# Altium footprint library TO.PcbLib: 2 footprints
Each footprint in its own frame and in the unit in brackets; x right, y up, seen from the top. Pads: shape width x height; smd on the part's side, far side on the other; paste and mask are expansions set on the pad; w line width, h text height; cw(c..) or ccw(c..) is an arc to the next point about the centre after c.
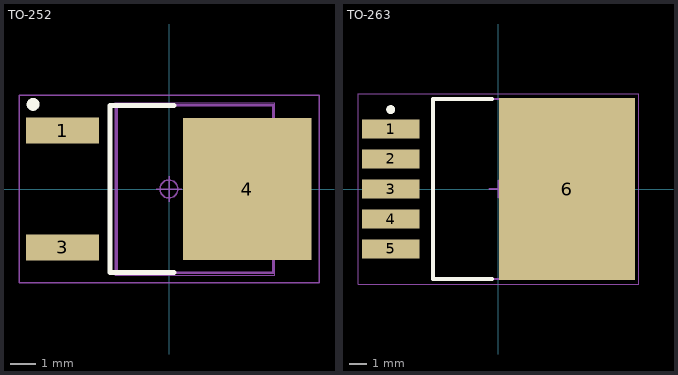
[diagram p0: the footprints below, top view; thin cyan lines are the x and y axes]

## TO-252 [mm]
pads (3):
  rect 2.85x1 smd: 1(-4.15,2.28) 3(-4.15,-2.28)
  rect 5x5.55 smd: 4(3.05,0)
Top Overlay:
  circle w0.25: c-5.3,3.3 r0.125
  lines w0.2: 0.2,-3.25 -2.3,-3.25 -2.3,3.25 0.2,3.25
Mechanical 13:
  lines w0.1: 4.062,-2.602 4.356,-2.602 4.952,-1.942 4.952,1.942 4.356,2.602 4.062,2.602 ; -2.032,-3.27 4.062,-3.27 4.062,3.27 -2.032,3.27 -2.032,-3.27
Mechanical 15:
  circle w0.05: c0,0 r0.35
  lines w0.001: -2.095,-3.365 4.125,-3.365 4.125,3.365 -2.095,3.365 -2.095,-3.365
  lines w0.05: -0.5,0 0.5,0 ; 0,-0.5 0,0.5 ; -5.85,-3.65 5.85,-3.65 5.85,3.65 -5.85,3.65 -5.85,-3.65

## TO-263 [mm] "D2-PAK, 6-Pads, Body 7,93x8,46mm (max), IPC Medium Density"
height 4.83
pads (6):
  rect 3.25x1.1 smd: 1(-6.1,3.4) 2(-6.1,1.7) 3(-6.1,0) 4(-6.1,-1.7) 5(-6.1,-3.4)
  rect 7.7x10.3 smd: 6(3.9,0)
Top Overlay:
  circle w0.25: c-6.1,4.5 r0.125
  lines w0.2: -0.35,-5.1 -3.7,-5.1 -3.7,5.1 -0.35,5.1
Mechanical 13:
  lines w0.1: -3.7,-5.1 5.95,-5.1 5.95,5.1 -3.7,5.1 -3.7,-5.1
Mechanical 15:
  lines w0.05: -7.95,-5.4 7.95,-5.4 7.95,5.4 -7.95,5.4 -7.95,-5.4
  lines w0.1: -0.5,0 0.5,0 ; 0,-0.5 0,0.5
3D body: height 4.83, standoff 0.64, extent -3.7,-5.1 5.95,5.1